# Altium footprint library WE-MLS.PcbLib: 10 footprints
Each footprint in its own frame and in the unit in brackets; x right, y up, seen from the top. Pads: shape width x height; smd on the part's side, far side on the other; paste and mask are expansions set on the pad; w line width, h text height; cw(c..) or ccw(c..) is an arc to the next point about the centre after c.
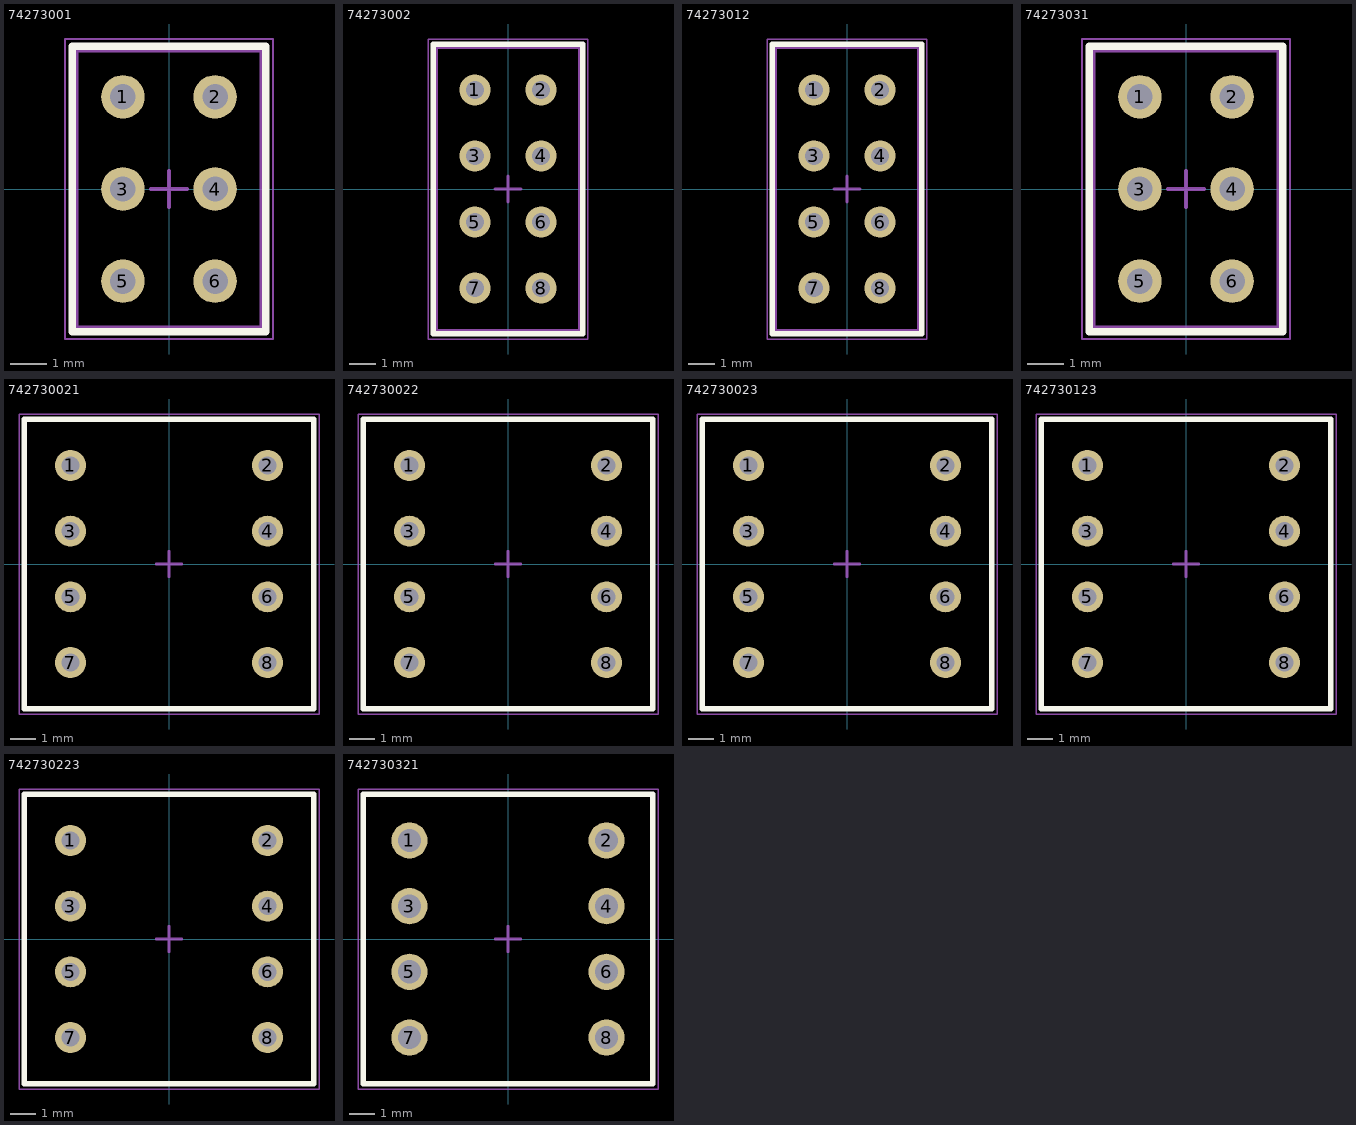
[diagram p0: the footprints below, top view; thin cyan lines are the x and y axes]

## 74273001 [mm] "THT Multiline EMI Suppression Ferrite, body 7.62x5.08mm"
height 10
pads (6):
  round 1.2 hole 0.7: 1(-1.27,2.54) 2(1.27,2.54) 3(-1.27,0) 4(1.27,0) 5(-1.27,-2.54) 6(1.27,-2.54)
Top Overlay:
  lines w0.2: -2.665,-3.935 -2.665,3.935 2.665,3.935 2.665,-3.935 -2.665,-3.935
Top Assembly:
  lines w0.1: -2.54,-3.81 -2.54,3.81 2.54,3.81 2.54,-3.81 -2.54,-3.81
Top Designator:
  text ".Designator" at -3.647,-0.357 h1
Top 3D Body:
  lines w0.1: -2.54,-3.81 2.54,-3.81 2.54,3.81 -2.54,3.81 -2.54,-3.81
Top Courtyard:
  lines w0.05: -2.865,-4.135 -2.865,4.135 2.865,4.135 2.865,-4.135 -2.865,-4.135
Top Component Center:
  lines w0.1: -0.5,0 0.5,0 ; 0,-0.5 0,0.5
3D body "74273001.stp": height 10.15, standoff -5.75, extent -2.54,-3.81 2.54,3.81

## 74273002 [mm] "THT Multiline EMI Suppression Ferrite, body 10.88x5.49mm"
height 11.2
pads (8):
  round 1.2 hole 0.7: 1(-1.27,3.81) 2(1.27,3.81) 3(-1.27,1.27) 4(1.27,1.27) 5(-1.27,-1.27) 6(1.27,-1.27) 7(-1.27,-3.81) 8(1.27,-3.81)
Top Overlay:
  lines w0.2: -2.87,-5.565 -2.87,5.565 2.87,5.565 2.87,-5.565 -2.87,-5.565
Top Assembly:
  lines w0.1: -2.745,-5.44 -2.745,5.44 2.745,5.44 2.745,-5.44 -2.745,-5.44
Top Designator:
  text ".Designator" at -3.647,-0.357 h1
Top 3D Body:
  lines w0.1: -2.745,-5.44 2.745,-5.44 2.745,5.44 -2.745,5.44 -2.745,-5.44
Top Courtyard:
  lines w0.05: -3.07,-5.765 -3.07,5.765 3.07,5.765 3.07,-5.765 -3.07,-5.765
Top Component Center:
  lines w0.1: -0.5,0 0.5,0 ; 0,-0.5 0,0.5
3D body "74273002.stp": height 10.15, standoff -3.14, extent -2.745,-5.44 2.745,5.44

## 74273012 [mm] "THT Multiline EMI Suppression Ferrite, body 10.88x5.49mm"
height 11.2
pads (8):
  round 1.2 hole 0.7: 1(-1.27,3.81) 2(1.27,3.81) 3(-1.27,1.27) 4(1.27,1.27) 5(-1.27,-1.27) 6(1.27,-1.27) 7(-1.27,-3.81) 8(1.27,-3.81)
Top Overlay:
  lines w0.2: -2.87,-5.565 2.87,-5.565 2.87,5.565 -2.87,5.565 -2.87,-5.565
Top Assembly:
  lines w0.1: -2.745,-5.44 2.745,-5.44 2.745,5.44 -2.745,5.44 -2.745,-5.44
Top Designator:
  text ".Designator" at -3.647,-0.357 h1
Top 3D Body:
  lines w0.1: -2.745,-5.44 2.745,-5.44 2.745,5.44 -2.745,5.44 -2.745,-5.44
Top Courtyard:
  lines w0.05: -3.07,-5.765 3.07,-5.765 3.07,5.765 -3.07,5.765 -3.07,-5.765
Top Component Center:
  lines w0.1: -0.5,0 0.5,0 ; 0,-0.5 0,0.5
3D body "74273012.stp": height 10.61, standoff -4.5, extent -2.745,-5.44 2.745,5.44

## 74273031 [mm] "THT Multiline EMI Suppression Ferrite, body 7.62x5.08mm"
height 11.2
pads (6):
  round 1.2 hole 0.7: 1(-1.27,2.54) 2(1.27,2.54) 3(-1.27,0) 4(1.27,0) 5(-1.27,-2.54) 6(1.27,-2.54)
Top Overlay:
  lines w0.2: -2.665,-3.935 -2.665,3.935 2.665,3.935 2.665,-3.935 -2.665,-3.935
Top Assembly:
  lines w0.1: -2.54,-3.81 -2.54,3.81 2.54,3.81 2.54,-3.81 -2.54,-3.81
Top Designator:
  text ".Designator" at -3.647,-0.357 h1
Top 3D Body:
  lines w0.1: -2.54,-3.81 2.54,-3.81 2.54,3.81 -2.54,3.81 -2.54,-3.81
Top Courtyard:
  lines w0.05: -2.865,-4.135 -2.865,4.135 2.865,4.135 2.865,-4.135 -2.865,-4.135
Top Component Center:
  lines w0.1: -0.5,0 0.5,0 ; 0,-0.5 0,0.5
3D body "74273031.stp": height 10.65, standoff -3.45, extent -2.54,-3.81 2.54,3.81

## 742730021 [mm] "THT Multiline EMI Suppression Ferrite, body 11.20x11.20mm"
height 8
pads (8):
  round 1.2 hole 0.7: 1(-3.81,3.81) 2(3.81,3.81) 3(-3.81,1.27) 4(3.81,1.27) 5(-3.81,-1.27) 6(3.81,-1.27) 7(-3.81,-3.81) 8(3.81,-3.81)
Top Overlay:
  lines w0.2: -5.6,-5.6 -5.6,5.6 5.6,5.6 5.6,-5.6 -5.6,-5.6
Top Assembly:
  lines w0.1: -5.6,-5.6 -5.6,5.6 5.6,5.6 5.6,-5.6 -5.6,-5.6
Top Designator:
  text ".Designator" at -3.647,-0.357 h1
Top 3D Body:
  lines w0.1: -5.6,-5.6 5.6,-5.6 5.6,5.6 -5.6,5.6 -5.6,-5.6
Top Courtyard:
  lines w0.05: -5.8,-5.8 -5.8,5.8 5.8,5.8 5.8,-5.8 -5.8,-5.8
Top Component Center:
  lines w0.1: -0.5,0 0.5,0 ; 0,-0.5 0,0.5
3D body "742730021.stp": height 5.15, standoff -4.95, extent -5.6,-5.6 5.6,5.6

## 742730022 [mm] "THT Multiline EMI Suppression Ferrite, body 11.2x11.2mm"
height 11
pads (8):
  round 1.2 hole 0.7: 1(-3.81,3.81) 2(3.81,3.81) 3(-3.81,1.27) 4(3.81,1.27) 5(-3.81,-1.27) 6(3.81,-1.27) 7(-3.81,-3.81) 8(3.81,-3.81)
Top Overlay:
  lines w0.2: -5.6,-5.6 5.6,-5.6 5.6,5.6 -5.6,5.6 -5.6,-5.6
Top Assembly:
  lines w0.1: -5.6,-5.6 5.6,-5.6 5.6,5.6 -5.6,5.6 -5.6,-5.6
Top Designator:
  text ".Designator" at -3.647,-0.357 h1
Top 3D Body:
  lines w0.1: -5.6,-5.6 -5.6,5.6 5.6,5.6 5.6,-5.6 -5.6,-5.6
Top Courtyard:
  lines w0.05: -5.8,-5.8 5.8,-5.8 5.8,5.8 -5.8,5.8 -5.8,-5.8
Top Component Center:
  lines w0.1: -0.5,0 0.5,0 ; 0,-0.5 0,0.5
3D body "742730022.stp": height 8.15, standoff -3.45, extent -5.6,-5.6 5.6,5.6

## 742730023 [mm] "THT Multiline EMI Suppression Ferrite, body 11.2x11.2mm"
height 13.95
pads (8):
  round 1.2 hole 0.7: 1(-3.81,3.81) 2(3.81,3.81) 3(-3.81,1.27) 4(3.81,1.27) 5(-3.81,-1.27) 6(3.81,-1.27) 7(-3.81,-3.81) 8(3.81,-3.81)
Top Overlay:
  lines w0.2: -5.6,-5.6 5.6,-5.6 5.6,5.6 -5.6,5.6 -5.6,-5.6
Top Assembly:
  lines w0.1: -5.6,-5.6 5.6,-5.6 5.6,5.6 -5.6,5.6 -5.6,-5.6
Top Designator:
  text ".Designator" at -3.647,-0.357 h1
Top 3D Body:
  lines w0.1: -5.6,-5.6 -5.6,5.6 5.6,5.6 5.6,-5.6 -5.6,-5.6
Top Courtyard:
  lines w0.05: -5.8,-5.8 5.8,-5.8 5.8,5.8 -5.8,5.8 -5.8,-5.8
Top Component Center:
  lines w0.1: -0.5,0 0.5,0 ; 0,-0.5 0,0.5
3D body "742730023.stp": height 11.15, standoff -4.95, extent -5.6,-5.6 5.6,5.6

## 742730123 [mm] "THT Multiline EMI Suppression Ferrite, body 11.2x11.2mm"
height 12.8
pads (8):
  round 1.2 hole 0.7: 1(-3.81,3.81) 2(3.81,3.81) 3(-3.81,1.27) 4(3.81,1.27) 5(-3.81,-1.27) 6(3.81,-1.27) 7(-3.81,-3.81) 8(3.81,-3.81)
Top Overlay:
  lines w0.2: -5.6,-5.6 -5.6,5.6 5.6,5.6 5.6,-5.6 -5.6,-5.6
Top Assembly:
  lines w0.1: -5.6,-5.6 -5.6,5.6 5.6,5.6 5.6,-5.6 -5.6,-5.6
Top Designator:
  text ".Designator" at -3.647,-0.357 h1
Top 3D Body:
  lines w0.1: -5.6,-5.6 -5.6,5.6 5.6,5.6 5.6,-5.6 -5.6,-5.6
Top Courtyard:
  lines w0.05: -5.8,-5.8 -5.8,5.8 5.8,5.8 5.8,-5.8 -5.8,-5.8
Top Component Center:
  lines w0.1: -0.5,0 0.5,0 ; 0,-0.5 0,0.5
3D body "742730123.stp": height 11.5, standoff -2.45, extent -5.6,-5.6 5.6,5.6

## 742730223 [mm] "THT Multiline EMI Suppression Ferrite, body 11.2x11.2mm"
height 12.8
pads (8):
  round 1.2 hole 0.7: 1(-3.81,3.81) 2(3.81,3.81) 3(-3.81,1.27) 4(3.81,1.27) 5(-3.81,-1.27) 6(3.81,-1.27) 7(-3.81,-3.81) 8(3.81,-3.81)
Top Overlay:
  lines w0.2: -5.6,-5.6 5.6,-5.6 5.6,5.6 -5.6,5.6 -5.6,-5.6
Top Assembly:
  lines w0.1: -5.6,-5.6 5.6,-5.6 5.6,5.6 -5.6,5.6 -5.6,-5.6
Top Designator:
  text ".Designator" at -3.647,-0.357 h1
Top 3D Body:
  lines w0.1: -5.6,-5.6 5.6,-5.6 5.6,5.6 -5.6,5.6 -5.6,-5.6
Top Courtyard:
  lines w0.05: -5.8,-5.8 5.8,-5.8 5.8,5.8 -5.8,5.8 -5.8,-5.8
Top Component Center:
  lines w0.1: -0.5,0 0.5,0 ; 0,-0.5 0,0.5
3D body "742730223.stp": height 11.5, standoff -3.2, extent -5.6,-5.6 5.6,5.6

## 742730321 [mm] "THT Multiline EMI Suppression Ferrite, body 11.2x11.2mm"
height 5.3
pads (8):
  round 1.4 hole 0.9: 1(-3.81,3.81) 2(3.81,3.81) 3(-3.81,1.27) 4(3.81,1.27) 5(-3.81,-1.27) 6(3.81,-1.27) 7(-3.81,-3.81) 8(3.81,-3.81)
Top Overlay:
  lines w0.2: -5.6,-5.6 -5.6,5.6 5.6,5.6 5.6,-5.6 -5.6,-5.6
Top Assembly:
  lines w0.1: -5.6,-5.6 -5.6,5.6 5.6,5.6 5.6,-5.6 -5.6,-5.6
Top Designator:
  text ".Designator" at -3.647,-0.357 h1
Top 3D Body:
  lines w0.1: -5.6,-5.6 5.6,-5.6 5.6,5.6 -5.6,5.6 -5.6,-5.6
Top Courtyard:
  lines w0.05: -5.8,-5.8 -5.8,5.8 5.8,5.8 5.8,-5.8 -5.8,-5.8
Top Component Center:
  lines w0.1: -0.5,0 0.5,0 ; 0,-0.5 0,0.5
3D body "742730321.stp": height 6.4, standoff -2.3, extent -5.6,-5.6 5.6,5.6